# Altium footprint library QFN.PcbLib: 33 footprints (part 2 of 3)
Each footprint in its own frame and in the unit in brackets; x right, y up, seen from the top. Pads: shape width x height; smd on the part's side, far side on the other; paste and mask are expansions set on the pad; w line width, h text height; cw(c..) or ccw(c..) is an arc to the next point about the centre after c.
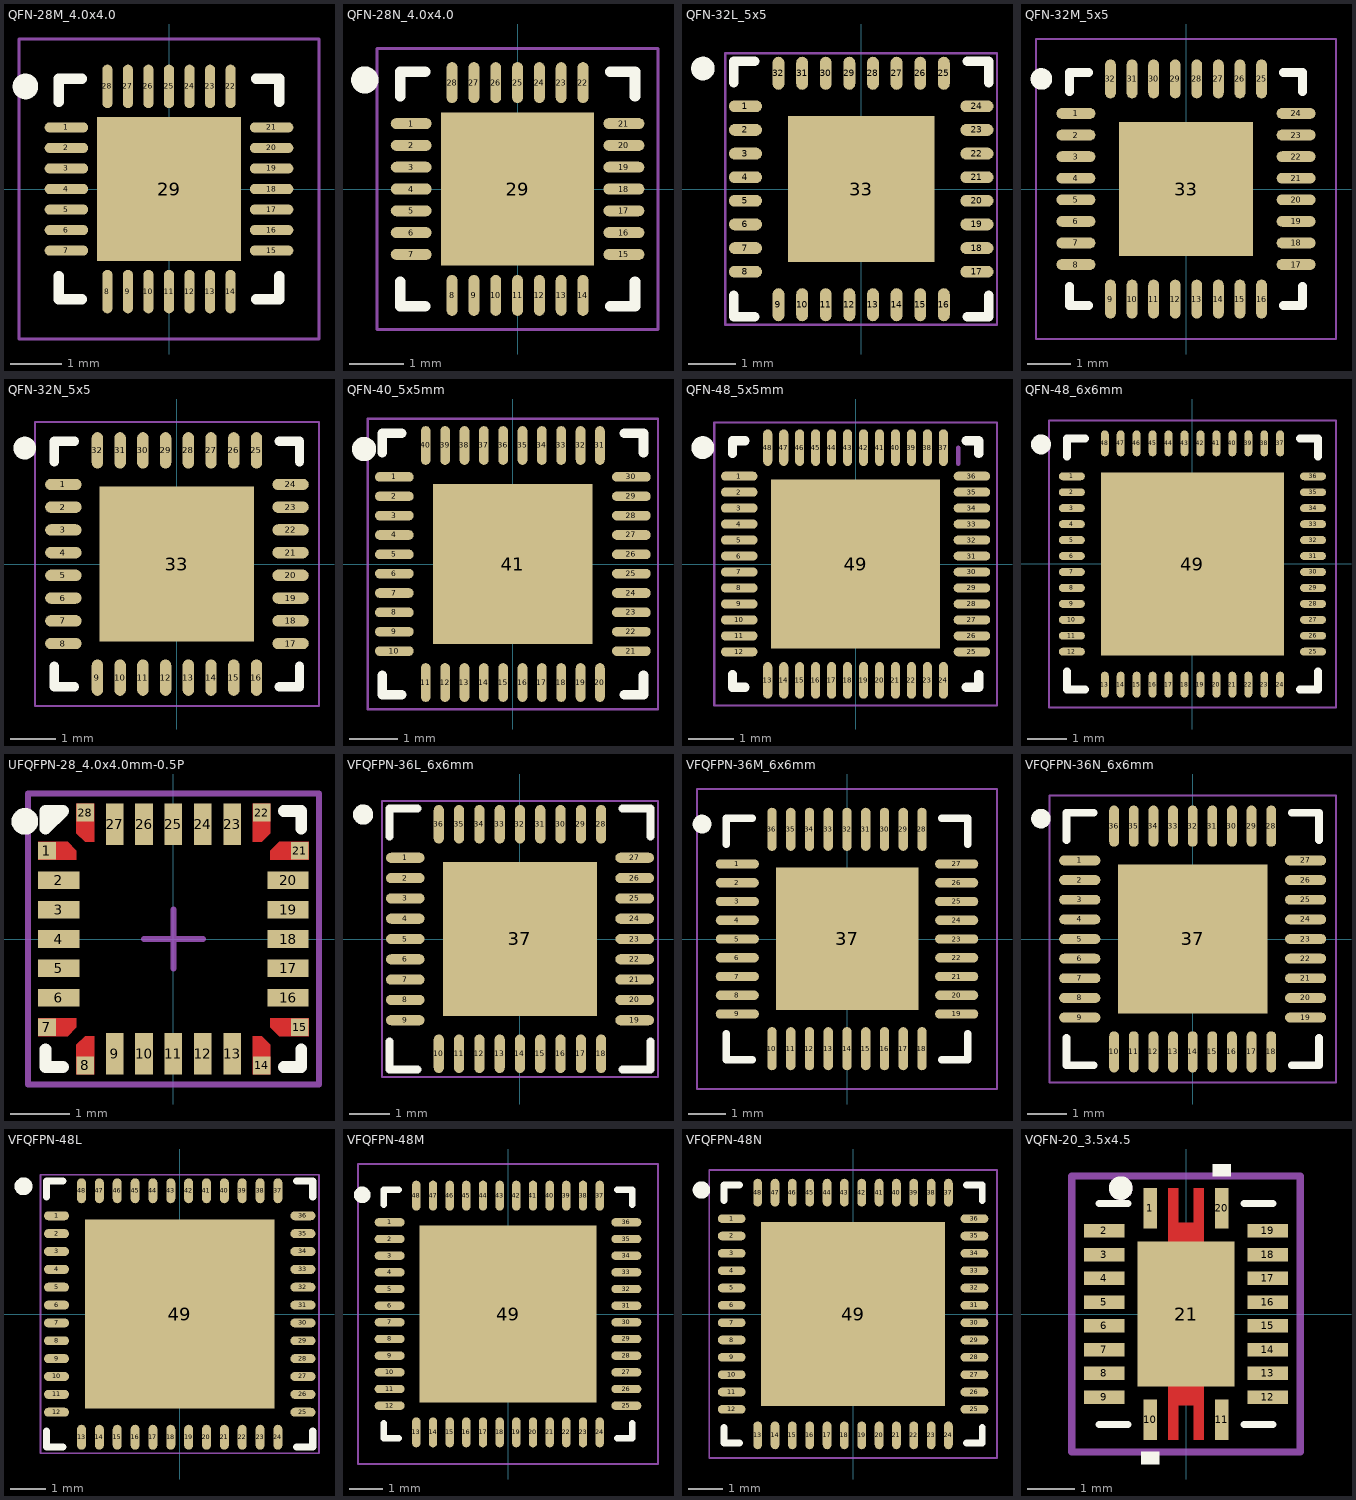
[diagram p1: the footprints below, top view; thin cyan lines are the x and y axes]

## QFN-28M_4.0x4.0 [mm] "QFN, 28-Leads, Body 4.00x4.00mm, Pitch 0.40mm, Thermal Pad 2.80x2.80mm, IPC Low Density"
height 0.8
pads (29):
  oval 0.85x0.2 smd: 1(-2,1.2) 2(-2,0.8) 3(-2,0.4) 4(-2,0) 5(-2,-0.4) 6(-2,-0.8) 7(-2,-1.2) 15(2,-1.2) 16(2,-0.8) 17(2,-0.4) 18(2,0) 19(2,0.4) 20(2,0.8) 21(2,1.2)
  oval 0.2x0.85 smd: 8(-1.2,-2) 9(-0.8,-2) 10(-0.4,-2) 11(0,-2) 12(0.4,-2) 13(0.8,-2) 14(1.2,-2) 22(1.2,2) 23(0.8,2) 24(0.4,2) 25(0,2) 26(-0.4,2) 27(-0.8,2) 28(-1.2,2)
  rect 2.8x2.8 smd: 29(0,0)
Top Overlay:
  circle w0.25: c-2.8,2 r0.125
  lines w0.2: -2.15,-1.7 -2.15,-2.15 -1.7,-2.15 ; -2.15,1.7 -2.15,2.15 -1.7,2.15 ; 1.7,-2.15 2.15,-2.15 2.15,-1.7 ; 1.7,2.15 2.15,2.15 2.15,1.7
Mechanical 15:
  lines w0.05: -2.925,-2.925 2.925,-2.925 2.925,2.925 -2.925,2.925 -2.925,-2.925
  lines w0.1: -0.5,0 0.5,0 ; 0,-0.5 0,0.5
3D body "QFN-28_4x4.STEP": height 0.75, standoff 0, extent -2,-2 2,2

## QFN-28N_4.0x4.0 [mm] "QFN, 28-Leads, Body 4.00x4.00mm, Pitch 0.40mm, Thermal Pad 2.80x2.80mm, IPC Medium Density"
height 0.8
pads (29):
  oval 0.75x0.2 smd: 1(-1.95,1.2) 2(-1.95,0.8) 3(-1.95,0.4) 4(-1.95,0) 5(-1.95,-0.4) 6(-1.95,-0.8) 7(-1.95,-1.2) 15(1.95,-1.2) 16(1.95,-0.8) 17(1.95,-0.4) 18(1.95,0) 19(1.95,0.4) 20(1.95,0.8) 21(1.95,1.2)
  oval 0.2x0.75 smd: 8(-1.2,-1.95) 9(-0.8,-1.95) 10(-0.4,-1.95) 11(0,-1.95) 12(0.4,-1.95) 13(0.8,-1.95) 14(1.2,-1.95) 22(1.2,1.95) 23(0.8,1.95) 24(0.4,1.95) 25(0,1.95) 26(-0.4,1.95) 27(-0.8,1.95) 28(-1.2,1.95)
  rect 2.8x2.8 smd: 29(0,0)
Top Overlay:
  circle w0.25: c-2.8,2 r0.125
  lines w0.2: -2.15,-1.7 -2.15,-2.15 -1.7,-2.15 ; -2.15,1.7 -2.15,2.15 -1.7,2.15 ; 1.7,-2.15 2.15,-2.15 2.15,-1.7 ; 1.7,2.15 2.15,2.15 2.15,1.7
Mechanical 15:
  lines w0.05: -2.575,-2.575 -2.575,2.575 2.575,2.575 2.575,-2.575 -2.575,-2.575
  lines w0.1: -0.5,0 0.5,0 ; 0,-0.5 0,0.5
3D body "QFN-28_4x4.STEP": height 0.75, standoff 0, extent -2,-2 2,2

## QFN-32L_5x5 [mm] "QFN, 32-Leads, Body 5.00x5.00mm, Pitch 0.50mm, Thermal Pad 3.10x3.10mm, IPC High Density"
height 1
pads (33):
  oval 0.7x0.25 smd: 1(-2.45,1.75) 2(-2.45,1.25) 3(-2.45,0.75) 4(-2.45,0.25) 5(-2.45,-0.25) 6(-2.45,-0.75) 7(-2.45,-1.25) 8(-2.45,-1.75) 17(2.45,-1.75) 18(2.45,-1.25) 19(2.45,-0.75) 20(2.45,-0.25) 21(2.45,0.25) 22(2.45,0.75) 23(2.45,1.25) 24(2.45,1.75)
  oval 0.25x0.7 smd: 9(-1.75,-2.45) 10(-1.25,-2.45) 11(-0.75,-2.45) 12(-0.25,-2.45) 13(0.25,-2.45) 14(0.75,-2.45) 15(1.25,-2.45) 16(1.75,-2.45) 25(1.75,2.45) 26(1.25,2.45) 27(0.75,2.45) 28(0.25,2.45) 29(-0.25,2.45) 30(-0.75,2.45) 31(-1.25,2.45) 32(-1.75,2.45)
  rect 3.1x3.1 smd: 33(0,0)
Top Overlay:
  circle w0.25: c-3.35,2.55 r0.125
  lines w0.2: -2.7,-2.25 -2.7,-2.7 -2.25,-2.7 ; -2.7,2.25 -2.7,2.7 -2.25,2.7 ; 2.25,-2.7 2.7,-2.7 2.7,-2.25 ; 2.25,2.7 2.7,2.7 2.7,2.25
Mechanical 15:
  lines w0.05: -2.875,-2.875 2.875,-2.875 2.875,2.875 -2.875,2.875 -2.875,-2.875
  lines w0.1: -0.5,0 0.5,0 ; 0,-0.5 0,0.5
3D body: height 1, standoff 0.05, extent -2.55,-2.55 2.55,2.55

## QFN-32M_5x5 [mm] "QFN, 32-Leads, Body 5.00x5.00mm, Pitch 0.50mm, Thermal Pad 3.10x3.10mm, IPC Low Density"
height 1
pads (33):
  oval 0.9x0.25 smd: 1(-2.55,1.75) 2(-2.55,1.25) 3(-2.55,0.75) 4(-2.55,0.25) 5(-2.55,-0.25) 6(-2.55,-0.75) 7(-2.55,-1.25) 8(-2.55,-1.75) 17(2.55,-1.75) 18(2.55,-1.25) 19(2.55,-0.75) 20(2.55,-0.25) 21(2.55,0.25) 22(2.55,0.75) 23(2.55,1.25) 24(2.55,1.75)
  oval 0.25x0.9 smd: 9(-1.75,-2.55) 10(-1.25,-2.55) 11(-0.75,-2.55) 12(-0.25,-2.55) 13(0.25,-2.55) 14(0.75,-2.55) 15(1.25,-2.55) 16(1.75,-2.55) 25(1.75,2.55) 26(1.25,2.55) 27(0.75,2.55) 28(0.25,2.55) 29(-0.25,2.55) 30(-0.75,2.55) 31(-1.25,2.55) 32(-1.75,2.55)
  rect 3.1x3.1 smd: 33(0,0)
Top Overlay:
  circle w0.25: c-3.35,2.55 r0.125
  lines w0.2: -2.7,-2.25 -2.7,-2.7 -2.25,-2.7 ; -2.7,2.25 -2.7,2.7 -2.25,2.7 ; 2.25,-2.7 2.7,-2.7 2.7,-2.25 ; 2.25,2.7 2.7,2.7 2.7,2.25
Mechanical 15:
  lines w0.05: -3.475,-3.475 -3.475,3.475 3.475,3.475 3.475,-3.475 -3.475,-3.475
  lines w0.1: -0.5,0 0.5,0 ; 0,-0.5 0,0.5
3D body: height 1, standoff 0.05, extent -2.55,-2.55 2.55,2.55

## QFN-32N_5x5 [mm] "QFN, 32-Leads, Body 5.00x5.00mm, Pitch 0.50mm, Thermal Pad 3.10x3.10mm, IPC Medium Density"
height 1
pads (33):
  oval 0.8x0.25 smd: 1(-2.5,1.75) 2(-2.5,1.25) 3(-2.5,0.75) 4(-2.5,0.25) 5(-2.5,-0.25) 6(-2.5,-0.75) 7(-2.5,-1.25) 8(-2.5,-1.75) 17(2.5,-1.75) 18(2.5,-1.25) 19(2.5,-0.75) 20(2.5,-0.25) 21(2.5,0.25) 22(2.5,0.75) 23(2.5,1.25) 24(2.5,1.75)
  oval 0.25x0.8 smd: 9(-1.75,-2.5) 10(-1.25,-2.5) 11(-0.75,-2.5) 12(-0.25,-2.5) 13(0.25,-2.5) 14(0.75,-2.5) 15(1.25,-2.5) 16(1.75,-2.5) 25(1.75,2.5) 26(1.25,2.5) 27(0.75,2.5) 28(0.25,2.5) 29(-0.25,2.5) 30(-0.75,2.5) 31(-1.25,2.5) 32(-1.75,2.5)
  rect 3.4x3.4 smd: 33(0,0)
Top Overlay:
  circle w0.25: c-3.35,2.55 r0.125
  lines w0.2: -2.7,-2.25 -2.7,-2.7 -2.25,-2.7 ; -2.7,2.25 -2.7,2.7 -2.25,2.7 ; 2.25,-2.7 2.7,-2.7 2.7,-2.25 ; 2.25,2.7 2.7,2.7 2.7,2.25
Mechanical 15:
  lines w0.05: -3.125,-3.125 3.125,-3.125 3.125,3.125 -3.125,3.125 -3.125,-3.125
3D body "QFN-32_5x5.STEP": height 0.75, standoff 0, extent -2.51,-2.51 2.51,2.51

## QFN-40_5x5mm [mm] "QFN, 40-Leads, Body 5.00x5.00mm, Pitch 0.40mm, Thermal Pad 3.30x3.30mm, IPC Medium Density"
height 0.75
pads (41):
  oval 0.8x0.2 smd: 1(-2.45,1.8) 2(-2.45,1.4) 3(-2.45,1) 4(-2.45,0.6) 5(-2.45,0.2) 6(-2.45,-0.2) 7(-2.45,-0.6) 8(-2.45,-1) 9(-2.45,-1.4) 10(-2.45,-1.8) 21(2.45,-1.8) 22(2.45,-1.4) 23(2.45,-1) 24(2.45,-0.6) 25(2.45,-0.2) 26(2.45,0.2) 27(2.45,0.6) 28(2.45,1) 29(2.45,1.4) 30(2.45,1.8)
  oval 0.2x0.8 smd: 11(-1.8,-2.45) 12(-1.4,-2.45) 13(-1,-2.45) 14(-0.6,-2.45) 15(-0.2,-2.45) 16(0.2,-2.45) 17(0.6,-2.45) 18(1,-2.45) 19(1.4,-2.45) 20(1.8,-2.45) 31(1.8,2.45) 32(1.4,2.45) 33(1,2.45) 34(0.6,2.45) 35(0.2,2.45) 36(-0.2,2.45) 37(-0.6,2.45) 38(-1,2.45) 39(-1.4,2.45) 40(-1.8,2.45)
  rect 3.3x3.3 smd: 41(0,0)
Top Overlay:
  circle w0.25: c-3.075,2.375 r0.125
  lines w0.2: -2.7,-2.3 -2.7,-2.7 -2.3,-2.7 ; -2.7,2.3 -2.7,2.7 -2.3,2.7 ; 2.3,-2.7 2.7,-2.7 2.7,-2.3 ; 2.3,2.7 2.7,2.7 2.7,2.3
Mechanical 15:
  lines w0.05: -3,-3 3,-3 3,3 -3,3 -3,-3
  lines w0.1: -0.5,0 0.5,0 ; 0,-0.5 0,0.5
3D body "QFN-40_5x5mm.STEP": height 0.63, standoff -0.01, extent -2.51,-2.51 2.51,2.51

## QFN-48_5x5mm [mm]
height 1.75
pads (49):
  oval 0.8x0.2 smd: 1(-2.55,1.925) 2(-2.55,1.575) 3(-2.55,1.225) 4(-2.55,0.875) 5(-2.55,0.525) 6(-2.55,0.175) 7(-2.55,-0.175) 8(-2.55,-0.525) 9(-2.55,-0.875) 10(-2.55,-1.225) 11(-2.55,-1.575) 12(-2.55,-1.925) 25(2.55,-1.925) 26(2.55,-1.575) 27(2.55,-1.225) 28(2.55,-0.875) 29(2.55,-0.525) 30(2.55,-0.175) 31(2.55,0.175) 32(2.55,0.525) 33(2.55,0.875) 34(2.55,1.225) 35(2.55,1.575) 36(2.55,1.925)
  oval 0.2x0.8 smd: 13(-1.925,-2.55) 14(-1.575,-2.55) 15(-1.225,-2.55) 16(-0.875,-2.55) 17(-0.525,-2.55) 18(-0.175,-2.55) 19(0.175,-2.55) 20(0.525,-2.55) 21(0.875,-2.55) 22(1.225,-2.55) 23(1.575,-2.55) 24(1.925,-2.55) 37(1.925,2.55) 38(1.575,2.55) 39(1.225,2.55) 40(0.875,2.55) 41(0.525,2.55) 42(0.175,2.55) 43(-0.175,2.55) 44(-0.525,2.55) 45(-0.875,2.55) 46(-1.225,2.55) 47(-1.575,2.55) 48(-1.925,2.55)
  rect 3.7x3.7 smd: 49(0,0)
Top Overlay:
  circle w0.25: c-3.35,2.55 r0.125
  lines w0.2: -2.7,-2.425 -2.7,-2.7 -2.425,-2.7 ; -2.7,2.425 -2.7,2.7 -2.425,2.7 ; 2.425,-2.7 2.7,-2.7 2.7,-2.425 ; 2.425,2.7 2.7,2.7 2.7,2.425
Mechanical 15:
  lines w0.05: -3.1,-3.1 -3.1,3.1 3.1,3.1 3.1,-3.1 -3.1,-3.1
  lines w0.1: -0.5,0 0.5,0 ; 0,-0.5 0,0.5 ; 2.25,2.2 2.25,2.55
3D body: height 0.55, standoff 0.02, extent -2.55,-2.55 2.55,2.55

## QFN-48_6x6mm [mm]
height 1.75
pads (49):
  oval 0.65x0.2 smd: 1(-3.025,2.2) 2(-3.025,1.8) 3(-3.025,1.4) 4(-3.025,1) 5(-3.025,0.6) 6(-3.025,0.2) 7(-3.025,-0.2) 8(-3.025,-0.6) 9(-3.025,-1) 10(-3.025,-1.4) 11(-3.025,-1.8) 12(-3.025,-2.2) 25(3.025,-2.2) 26(3.025,-1.8) 27(3.025,-1.4) 28(3.025,-1) 29(3.025,-0.6) 30(3.025,-0.2) 31(3.025,0.2) 32(3.025,0.6) 33(3.025,1) 34(3.025,1.4) 35(3.025,1.8) 36(3.025,2.2)
  oval 0.2x0.65 smd: 13(-2.2,-3.025) 14(-1.8,-3.025) 15(-1.4,-3.025) 16(-1,-3.025) 17(-0.6,-3.025) 18(-0.2,-3.025) 19(0.2,-3.025) 20(0.6,-3.025) 21(1,-3.025) 22(1.4,-3.025) 23(1.8,-3.025) 24(2.2,-3.025) 37(2.2,3.025) 38(1.8,3.025) 39(1.4,3.025) 40(1,3.025) 41(0.6,3.025) 42(0.2,3.025) 43(-0.2,3.025) 44(-0.6,3.025) 45(-1,3.025) 46(-1.4,3.025) 47(-1.8,3.025) 48(-2.2,3.025)
  rect 4.6x4.6 smd: 49(0,0)
Top Overlay:
  circle w0.25: c-3.8,3 r0.125
  lines w0.2: -3.15,-2.7 -3.15,-3.15 -2.7,-3.15 ; -3.15,2.7 -3.15,3.15 -2.7,3.15 ; 2.7,-3.15 3.15,-3.15 3.15,-2.7 ; 2.7,3.15 3.15,3.15 3.15,2.7
Mechanical 15:
  lines w0.05: -3.6,-3.6 -3.6,3.6 3.6,3.6 3.6,-3.6 -3.6,-3.6
  lines w0.1: -0.5,0 0.5,0 ; 0,-0.5 0,0.5
3D body "QFN-48-6x6mm_有字.STEP": height 0.65, standoff -0.02, extent -3.02,-3.02 3.02,3.02

## UFQFPN-28_4.0x4.0mm-0.5P [mm]
height 0.6
pads (28):
  rect 0.3x0.3 smd: 1(-2.15,1.5) 7(-2.15,-1.5) 8(-1.5,-2.15) 14(1.5,-2.15) 15(2.15,-1.5) 21(2.15,1.5) 22(1.5,2.15) 28(-1.5,2.15)
  rect 0.7x0.3 smd: 2(-1.95,1) 3(-1.95,0.5) 4(-1.95,0) 5(-1.95,-0.5) 6(-1.95,-1) 16(1.95,-1) 17(1.95,-0.5) 18(1.95,0) 19(1.95,0.5) 20(1.95,1)
  rect 0.3x0.7 smd: 9(-1,-1.95) 10(-0.5,-1.95) 11(0,-1.95) 12(0.5,-1.95) 13(1,-1.95) 23(1,1.95) 24(0.5,1.95) 25(0,1.95) 26(-0.5,1.95) 27(-1,1.95)
Top Layer:
  region: -2.3,1.35 -1.65,1.35 -1.65,1.5 -1.8,1.65 -2.3,1.65
  region: -1.35,2.3 -1.35,1.65 -1.5,1.65 -1.65,1.8 -1.65,2.3
  region: -2.3,-1.35 -1.65,-1.35 -1.65,-1.5 -1.8,-1.65 -2.3,-1.65
  region: -1.35,-2.3 -1.35,-1.65 -1.5,-1.65 -1.65,-1.8 -1.65,-2.3
  region: 1.35,-2.3 1.35,-1.65 1.5,-1.65 1.65,-1.8 1.65,-2.3
  region: 2.3,-1.35 1.65,-1.35 1.65,-1.5 1.8,-1.65 2.3,-1.65
  region: 2.3,1.35 1.65,1.35 1.65,1.5 1.8,1.65 2.3,1.65
  region: 1.35,2.3 1.35,1.65 1.5,1.65 1.65,1.8 1.65,2.3
Top Overlay:
  circle w0.254: c-2.525,2 r0.1
  lines w0.2: -2.175,-1.875 -2.175,-2.175 -1.875,-2.175 ; 1.875,-2.175 2.175,-2.175 2.175,-1.875 ; 1.875,2.175 2.175,2.175 2.175,1.875 ; -2.175,1.875 -2.175,2.175 -1.875,2.175 -2.175,1.875
Top Paste:
  region: -2.3,1.35 -1.65,1.35 -1.65,1.5 -1.8,1.65 -2.3,1.65
  region: -1.35,2.3 -1.35,1.65 -1.5,1.65 -1.65,1.8 -1.65,2.3
  region: -2.3,-1.35 -1.65,-1.35 -1.65,-1.5 -1.8,-1.65 -2.3,-1.65
  region: -1.35,-2.3 -1.35,-1.65 -1.5,-1.65 -1.65,-1.8 -1.65,-2.3
  region: 1.35,-2.3 1.35,-1.65 1.5,-1.65 1.65,-1.8 1.65,-2.3
  region: 2.3,-1.35 1.65,-1.35 1.65,-1.5 1.8,-1.65 2.3,-1.65
  region: 2.3,1.35 1.65,1.35 1.65,1.5 1.8,1.65 2.3,1.65
  region: 1.35,2.3 1.35,1.65 1.5,1.65 1.65,1.8 1.65,2.3
Top Solder:
  region: 2.4,1.25 1.5,1.25 1.5,1.75 2.4,1.75
  region: 1.75,1.5 1.25,1.5 1.25,2.4 1.75,2.4
  region: -1.25,2.4 -1.25,1.5 -1.75,1.5 -1.75,2.4
  region: -1.5,1.75 -1.5,1.25 -2.4,1.25 -2.4,1.75
  region: -2.4,-1.25 -1.5,-1.25 -1.5,-1.75 -2.4,-1.75
  region: -1.75,-1.5 -1.25,-1.5 -1.25,-2.4 -1.75,-2.4
  region: 1.5,-1.75 1.5,-1.25 2.4,-1.25 2.4,-1.75
  region: 1.25,-2.4 1.25,-1.5 1.75,-1.5 1.75,-2.4
Mechanical 15:
  lines w0.1: -0.5,0 0.5,0 ; 0,-0.5 0,0.5 ; -2.475,-2.475 -2.475,2.475 2.475,2.475 2.475,-2.475 -2.475,-2.475
3D body "UFQFPN-28_4.0x4.0mm-0.5P.STEP": height 0.55, standoff -0.03, extent -2.01,-2.01 2.01,2.01

## VFQFPN-36L_6x6mm [mm] "QFN, 36-Leads, Body 6x6mm, Pitch 0.5mm, Thermal Pad 4.3x4.3mm, IPC High Density"
height 1
pads (37):
  oval 0.95x0.25 smd: 1(-2.825,2) 2(-2.825,1.5) 3(-2.825,1) 4(-2.825,0.5) 5(-2.825,0) 6(-2.825,-0.5) 7(-2.825,-1) 8(-2.825,-1.5) 9(-2.825,-2) 19(2.825,-2) 20(2.825,-1.5) 21(2.825,-1) 22(2.825,-0.5) 23(2.825,0) 24(2.825,0.5) 25(2.825,1) 26(2.825,1.5) 27(2.825,2)
  oval 0.25x0.95 smd: 10(-2,-2.825) 11(-1.5,-2.825) 12(-1,-2.825) 13(-0.5,-2.825) 14(0,-2.825) 15(0.5,-2.825) 16(1,-2.825) 17(1.5,-2.825) 18(2,-2.825) 28(2,2.825) 29(1.5,2.825) 30(1,2.825) 31(0.5,2.825) 32(0,2.825) 33(-0.5,2.825) 34(-1,2.825) 35(-1.5,2.825) 36(-2,2.825)
  rect 3.8x3.8 smd: 37(0,0)
Top Overlay:
  circle w0.25: c-3.865,3.065 r0.125
  lines w0.2: -3.215,-2.525 -3.215,-3.215 -2.525,-3.215 ; -3.215,2.525 -3.215,3.215 -2.525,3.215 ; 2.525,-3.215 3.215,-3.215 3.215,-2.525 ; 2.525,3.215 3.215,3.215 3.215,2.525
Mechanical 15:
  lines w0.05: -3.4,-3.4 3.4,-3.4 3.4,3.4 -3.4,3.4 -3.4,-3.4
  lines w0.1: -0.5,0 0.5,0 ; 0,-0.5 0,0.5
3D body "User Library-TQFN-36.STEP": height 0.8, standoff 0, extent -3.06,-3.06 3.06,3.06

## VFQFPN-36M_6x6mm [mm] "QFN, 36-Leads, Body 6x6mm, Pitch 0.5mm, Thermal Pad 4.3x4.3mm, IPC Low Density"
height 1
pads (37):
  oval 1.15x0.25 smd: 1(-2.925,2) 2(-2.925,1.5) 3(-2.925,1) 4(-2.925,0.5) 5(-2.925,0) 6(-2.925,-0.5) 7(-2.925,-1) 8(-2.925,-1.5) 9(-2.925,-2) 19(2.925,-2) 20(2.925,-1.5) 21(2.925,-1) 22(2.925,-0.5) 23(2.925,0) 24(2.925,0.5) 25(2.925,1) 26(2.925,1.5) 27(2.925,2)
  oval 0.25x1.15 smd: 10(-2,-2.925) 11(-1.5,-2.925) 12(-1,-2.925) 13(-0.5,-2.925) 14(0,-2.925) 15(0.5,-2.925) 16(1,-2.925) 17(1.5,-2.925) 18(2,-2.925) 28(2,2.925) 29(1.5,2.925) 30(1,2.925) 31(0.5,2.925) 32(0,2.925) 33(-0.5,2.925) 34(-1,2.925) 35(-1.5,2.925) 36(-2,2.925)
  rect 3.8x3.8 smd: 37(0,0)
Top Overlay:
  circle w0.25: c-3.865,3.065 r0.125
  lines w0.2: -3.215,-2.525 -3.215,-3.215 -2.525,-3.215 ; -3.215,2.525 -3.215,3.215 -2.525,3.215 ; 2.525,-3.215 3.215,-3.215 3.215,-2.525 ; 2.525,3.215 3.215,3.215 3.215,2.525
Mechanical 15:
  lines w0.05: -4,-4 4,-4 4,4 -4,4 -4,-4
  lines w0.1: -0.5,0 0.5,0 ; 0,-0.5 0,0.5
3D body "User Library-TQFN-36.STEP": height 0.8, standoff 0, extent -3.06,-3.06 3.06,3.06

## VFQFPN-36N_6x6mm [mm] "QFN, 36-Leads, Body 6x6mm, Pitch 0.5mm, Thermal Pad 4.3x4.3mm, IPC Medium Density"
height 1
pads (37):
  oval 1.05x0.25 smd: 1(-2.875,2) 2(-2.875,1.5) 3(-2.875,1) 4(-2.875,0.5) 5(-2.875,0) 6(-2.875,-0.5) 7(-2.875,-1) 8(-2.875,-1.5) 9(-2.875,-2) 19(2.875,-2) 20(2.875,-1.5) 21(2.875,-1) 22(2.875,-0.5) 23(2.875,0) 24(2.875,0.5) 25(2.875,1) 26(2.875,1.5) 27(2.875,2)
  oval 0.25x1.05 smd: 10(-2,-2.875) 11(-1.5,-2.875) 12(-1,-2.875) 13(-0.5,-2.875) 14(0,-2.875) 15(0.5,-2.875) 16(1,-2.875) 17(1.5,-2.875) 18(2,-2.875) 28(2,2.875) 29(1.5,2.875) 30(1,2.875) 31(0.5,2.875) 32(0,2.875) 33(-0.5,2.875) 34(-1,2.875) 35(-1.5,2.875) 36(-2,2.875)
  rect 3.8x3.8 smd: 37(0,0)
Top Overlay:
  circle w0.25: c-3.865,3.065 r0.125
  lines w0.2: -3.215,-2.525 -3.215,-3.215 -2.525,-3.215 ; -3.215,2.525 -3.215,3.215 -2.525,3.215 ; 2.525,-3.215 3.215,-3.215 3.215,-2.525 ; 2.525,3.215 3.215,3.215 3.215,2.525
Mechanical 15:
  lines w0.05: -3.65,-3.65 -3.65,3.65 3.65,3.65 3.65,-3.65 -3.65,-3.65
  lines w0.1: -0.5,0 0.5,0 ; 0,-0.5 0,0.5
3D body "User Library-TQFN-36.STEP": height 0.8, standoff 0, extent -3.06,-3.06 3.06,3.06

## VFQFPN-48L [mm] "QFN, 48-Leads, Body 7x7mm, Pitch 0.5mm, Thermal Pad 5.3x5.3mm, IPC High Density"
height 1
pads (49):
  oval 0.7x0.25 smd: 1(-3.45,2.75) 2(-3.45,2.25) 3(-3.45,1.75) 4(-3.45,1.25) 5(-3.45,0.75) 6(-3.45,0.25) 7(-3.45,-0.25) 8(-3.45,-0.75) 9(-3.45,-1.25) 10(-3.45,-1.75) 11(-3.45,-2.25) 12(-3.45,-2.75) 25(3.45,-2.75) 26(3.45,-2.25) 27(3.45,-1.75) 28(3.45,-1.25) 29(3.45,-0.75) 30(3.45,-0.25) 31(3.45,0.25) 32(3.45,0.75) 33(3.45,1.25) 34(3.45,1.75) 35(3.45,2.25) 36(3.45,2.75)
  oval 0.25x0.7 smd: 13(-2.75,-3.45) 14(-2.25,-3.45) 15(-1.75,-3.45) 16(-1.25,-3.45) 17(-0.75,-3.45) 18(-0.25,-3.45) 19(0.25,-3.45) 20(0.75,-3.45) 21(1.25,-3.45) 22(1.75,-3.45) 23(2.25,-3.45) 24(2.75,-3.45) 37(2.75,3.45) 38(2.25,3.45) 39(1.75,3.45) 40(1.25,3.45) 41(0.75,3.45) 42(0.25,3.45) 43(-0.25,3.45) 44(-0.75,3.45) 45(-1.25,3.45) 46(-1.75,3.45) 47(-2.25,3.45) 48(-2.75,3.45)
  rect 5.3x5.3 smd: 49(0,0)
Top Overlay:
  circle w0.25: c-4.375,3.575 r0.125
  lines w0.2: -3.725,-3.275 -3.725,-3.725 -3.275,-3.725 ; -3.725,3.275 -3.725,3.725 -3.275,3.725 ; 3.275,-3.725 3.725,-3.725 3.725,-3.275 ; 3.275,3.725 3.725,3.725 3.725,3.275
Mechanical 15:
  lines w0.05: -3.9,-3.9 -3.9,3.9 3.9,3.9 3.9,-3.9 -3.9,-3.9
  lines w0.1: -0.5,0 0.5,0 ; 0,-0.5 0,0.5
3D body: height 1, standoff 0, extent -3.575,-3.575 3.575,3.575

## VFQFPN-48M [mm] "QFN, 48-Leads, Body 7x7mm, Pitch 0.5mm, Thermal Pad 5.3x5.3mm, IPC Low Density"
height 1
pads (49):
  oval 0.9x0.25 smd: 1(-3.55,2.75) 2(-3.55,2.25) 3(-3.55,1.75) 4(-3.55,1.25) 5(-3.55,0.75) 6(-3.55,0.25) 7(-3.55,-0.25) 8(-3.55,-0.75) 9(-3.55,-1.25) 10(-3.55,-1.75) 11(-3.55,-2.25) 12(-3.55,-2.75) 25(3.55,-2.75) 26(3.55,-2.25) 27(3.55,-1.75) 28(3.55,-1.25) 29(3.55,-0.75) 30(3.55,-0.25) 31(3.55,0.25) 32(3.55,0.75) 33(3.55,1.25) 34(3.55,1.75) 35(3.55,2.25) 36(3.55,2.75)
  oval 0.25x0.9 smd: 13(-2.75,-3.55) 14(-2.25,-3.55) 15(-1.75,-3.55) 16(-1.25,-3.55) 17(-0.75,-3.55) 18(-0.25,-3.55) 19(0.25,-3.55) 20(0.75,-3.55) 21(1.25,-3.55) 22(1.75,-3.55) 23(2.25,-3.55) 24(2.75,-3.55) 37(2.75,3.55) 38(2.25,3.55) 39(1.75,3.55) 40(1.25,3.55) 41(0.75,3.55) 42(0.25,3.55) 43(-0.25,3.55) 44(-0.75,3.55) 45(-1.25,3.55) 46(-1.75,3.55) 47(-2.25,3.55) 48(-2.75,3.55)
  rect 5.3x5.3 smd: 49(0,0)
Top Overlay:
  circle w0.25: c-4.375,3.575 r0.125
  lines w0.2: -3.725,-3.275 -3.725,-3.725 -3.275,-3.725 ; -3.725,3.275 -3.725,3.725 -3.275,3.725 ; 3.275,-3.725 3.725,-3.725 3.725,-3.275 ; 3.275,3.725 3.725,3.725 3.725,3.275
Mechanical 15:
  lines w0.05: -4.5,-4.5 -4.5,4.5 4.5,4.5 4.5,-4.5 -4.5,-4.5
  lines w0.1: -0.5,0 0.5,0 ; 0,-0.5 0,0.5
3D body: height 1, standoff 0, extent -3.575,-3.575 3.575,3.575

## VFQFPN-48N [mm] "QFN, 48-Leads, Body 7x7mm, Pitch 0.5mm, Thermal Pad 5.3x5.3mm, IPC Medium Density"
height 1
pads (49):
  oval 0.8x0.25 smd: 1(-3.5,2.75) 2(-3.5,2.25) 3(-3.5,1.75) 4(-3.5,1.25) 5(-3.5,0.75) 6(-3.5,0.25) 7(-3.5,-0.25) 8(-3.5,-0.75) 9(-3.5,-1.25) 10(-3.5,-1.75) 11(-3.5,-2.25) 12(-3.5,-2.75) 25(3.5,-2.75) 26(3.5,-2.25) 27(3.5,-1.75) 28(3.5,-1.25) 29(3.5,-0.75) 30(3.5,-0.25) 31(3.5,0.25) 32(3.5,0.75) 33(3.5,1.25) 34(3.5,1.75) 35(3.5,2.25) 36(3.5,2.75)
  oval 0.25x0.8 smd: 13(-2.75,-3.5) 14(-2.25,-3.5) 15(-1.75,-3.5) 16(-1.25,-3.5) 17(-0.75,-3.5) 18(-0.25,-3.5) 19(0.25,-3.5) 20(0.75,-3.5) 21(1.25,-3.5) 22(1.75,-3.5) 23(2.25,-3.5) 24(2.75,-3.5) 37(2.75,3.5) 38(2.25,3.5) 39(1.75,3.5) 40(1.25,3.5) 41(0.75,3.5) 42(0.25,3.5) 43(-0.25,3.5) 44(-0.75,3.5) 45(-1.25,3.5) 46(-1.75,3.5) 47(-2.25,3.5) 48(-2.75,3.5)
  rect 5.3x5.3 smd: 49(0,0)
Top Overlay:
  circle w0.25: c-4.375,3.575 r0.125
  lines w0.2: -3.725,-3.275 -3.725,-3.725 -3.275,-3.725 ; -3.725,3.275 -3.725,3.725 -3.275,3.725 ; 3.275,-3.725 3.725,-3.725 3.725,-3.275 ; 3.275,3.725 3.725,3.725 3.725,3.275
Mechanical 15:
  lines w0.05: -4.15,-4.15 4.15,-4.15 4.15,4.15 -4.15,4.15 -4.15,-4.15
  lines w0.1: -0.5,0 0.5,0 ; 0,-0.5 0,0.5
3D body: height 1, standoff 0, extent -3.575,-3.575 3.575,3.575

## VQFN-20_3.5x4.5 [mm]
pads (21):
  rect 0.28x0.85 smd paste-0.14: 1(-0.75,2.225) 10(-0.75,-2.225) 11(0.75,-2.225) 20(0.75,2.225)
  rect 0.85x0.28 smd paste-0.14: 2(-1.725,1.75) 3(-1.725,1.25) 4(-1.725,0.75) 5(-1.725,0.25) 6(-1.725,-0.25) 7(-1.725,-0.75) 8(-1.725,-1.25) 9(-1.725,-1.75) 12(1.725,-1.75) 13(1.725,-1.25) 14(1.725,-0.75) 15(1.725,-0.25) 16(1.725,0.25) 17(1.725,0.75) 18(1.725,1.25) 19(1.725,1.75)
  rect 2.05x3.05 smd paste-1.512 mask-1.511: 21(0,0)
Top Layer:
  region: -0.375,1.525 0.375,1.525 0.375,2.65 0.16,2.65 0.16,1.925 -0.16,1.925 -0.16,2.65 -0.375,2.65
  region: -0.375,-1.525 0.375,-1.525 0.375,-2.65 0.16,-2.65 0.16,-1.925 -0.16,-1.925 -0.16,-2.65 -0.375,-2.65
Top Overlay:
  circle w0.25: c-1.375,2.65 r0.125
  region: -0.56,-2.904 -0.941,-2.904 -0.941,-3.158 -0.56,-3.158
  region: 0.941,2.904 0.56,2.904 0.56,3.158 0.941,3.158
  lines w0.152: -1.825,-2.325 -1.223,-2.325 ; -1.825,2.325 -1.223,2.325 ; 1.223,-2.325 1.825,-2.325 ; 1.223,2.325 1.825,2.325
Top Paste:
  drawing of 36 lines, arcs and shapes, not listed
Top Solder:
  region: -1.23,1.96 -2.22,1.96 -2.22,1.54 -1.23,1.54
  region: -1.23,1.46 -2.22,1.46 -2.22,1.04 -1.23,1.04
  region: -1.23,0.96 -2.22,0.96 -2.22,0.54 -1.23,0.54
  region: -1.23,0.46 -2.22,0.46 -2.22,0.04 -1.23,0.04
  region: -1.23,-0.04 -2.22,-0.04 -2.22,-0.46 -1.23,-0.46
  region: -1.23,-0.54 -2.22,-0.54 -2.22,-0.96 -1.23,-0.96
  region: -1.23,-1.04 -2.22,-1.04 -2.22,-1.46 -1.23,-1.46
  region: -1.23,-1.54 -2.22,-1.54 -2.22,-1.96 -1.23,-1.96
  region: -0.54,-1.73 -0.96,-1.73 -0.96,-2.72 -0.54,-2.72
  region: 0.96,-1.73 0.54,-1.73 0.54,-2.72 0.96,-2.72
  region: 2.22,-1.54 1.23,-1.54 1.23,-1.96 2.22,-1.96
  region: 2.22,-1.04 1.23,-1.04 1.23,-1.46 2.22,-1.46
  region: 2.22,-0.54 1.23,-0.54 1.23,-0.96 2.22,-0.96
  region: 2.22,-0.04 1.23,-0.04 1.23,-0.46 2.22,-0.46
  region: 2.22,0.46 1.23,0.46 1.23,0.04 2.22,0.04
  region: 2.22,0.96 1.23,0.96 1.23,0.54 2.22,0.54
  region: 2.22,1.46 1.23,1.46 1.23,1.04 2.22,1.04
  region: 2.22,1.96 1.23,1.96 1.23,1.54 2.22,1.54
  region: 0.96,2.72 0.54,2.72 0.54,1.73 0.96,1.73
  region: -0.54,2.72 -0.96,2.72 -0.96,1.73 -0.54,1.73
  region: -0.375,1.525 0.375,1.525 0.375,2.65 0.16,2.65 0.16,1.925 -0.16,1.925 -0.16,2.65 -0.375,2.65
  region: -0.375,-1.525 0.375,-1.525 0.375,-2.65 0.16,-2.65 0.16,-1.925 -0.16,-1.925 -0.16,-2.65 -0.375,-2.65
  region: -1.088,0.987 -1.088,1.588 1.088,1.588 1.088,0.987
  region: -1.088,0.2 -1.088,0.587 1.088,0.587 1.088,0.2
  region: -1.088,-0.587 -1.088,-0.2 1.088,-0.2 1.088,-0.587
  region: -1.088,-1.588 -1.088,-0.987 1.088,-0.987 1.088,-1.588
  region: -1.088,-1.588 -1.088,1.588 -0.594,1.588 -0.594,-1.588
  region: 0.194,-1.588 0.194,1.588 -0.194,1.588 -0.194,-1.588
  region: 0.594,-1.588 0.594,1.588 1.088,1.588 1.088,-1.588
Mechanical 15:
  circle w0.25: c-1.375,2.65 r0.125
  lines w0.1: -0.5,0 0.5,0 ; 0,-0.5 0,0.5
  lines w0.152: -2.404,-2.904 -2.404,2.904 2.404,2.904 2.404,-2.904 -2.404,-2.904
3D body "VQFN-20(3.5x4.5).STEP": height 0.85, standoff -0.05, extent -1.76,-2.26 1.76,2.26